# Altium footprint library PcbLib.PcbLib: 2 footprints
Each footprint in its own frame and in the unit in brackets; x right, y up, seen from the top. Pads: shape width x height; smd on the part's side, far side on the other; paste and mask are expansions set on the pad; w line width, h text height; cw(c..) or ccw(c..) is an arc to the next point about the centre after c.
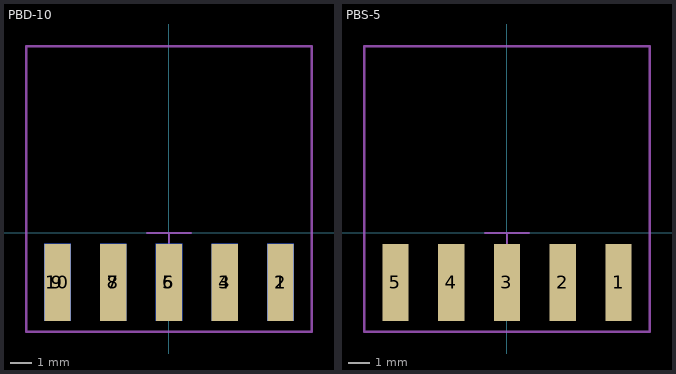
[diagram p0: the footprints below, top view; thin cyan lines are the x and y axes]

## PBD-10 [mm]
pads (10):
  rect 1.2x3.5 smd: 1(5.08,-2.25) 3(2.54,-2.25) 5(0,-2.25) 7(-2.54,-2.25) 9(-5.08,-2.25)
  rect 1.2x3.5 smd far side: 2(5.08,-2.25) 4(2.54,-2.25) 6(0,-2.25) 8(-2.54,-2.25) 10(-5.08,-2.25)
Mechanical 15 (Mech15):
  lines w0.1: -1,0 1,0 ; 0,-1 0,0 ; -6.5,-4.5 6.5,-4.5 6.5,8.5 -6.5,8.5 -6.5,-4.5
3D body "PBD2_54-10.step": height 1.79, standoff -3.29, extent -6.35,-2.7 6.35,8.4

## PBS-5 [mm]
pads (5):
  rect 1.2x3.5 smd: 1(5.08,-2.25) 2(2.54,-2.25) 3(0,-2.25) 4(-2.54,-2.25) 5(-5.08,-2.25)
Mechanical 15 (Mech15):
  lines w0.1: -1,0 1,0 ; 0,-1 0,0 ; -6.5,-4.5 -6.5,8.5 6.5,8.5 6.5,-4.5 -6.5,-4.5
3D body "PBS-5.STEP": height 1.62, standoff -0.92, extent -6.35,-3.5 6.35,8.15